# Altium footprint library Dual-In-Line Package.PcbLib: 120 footprints (part 3 of 8)
Each footprint in its own frame and in the unit in brackets; x right, y up, seen from the top. Pads: shape width x height; smd on the part's side, far side on the other; paste and mask are expansions set on the pad; w line width, h text height; cw(c..) or ccw(c..) is an arc to the next point about the centre after c.
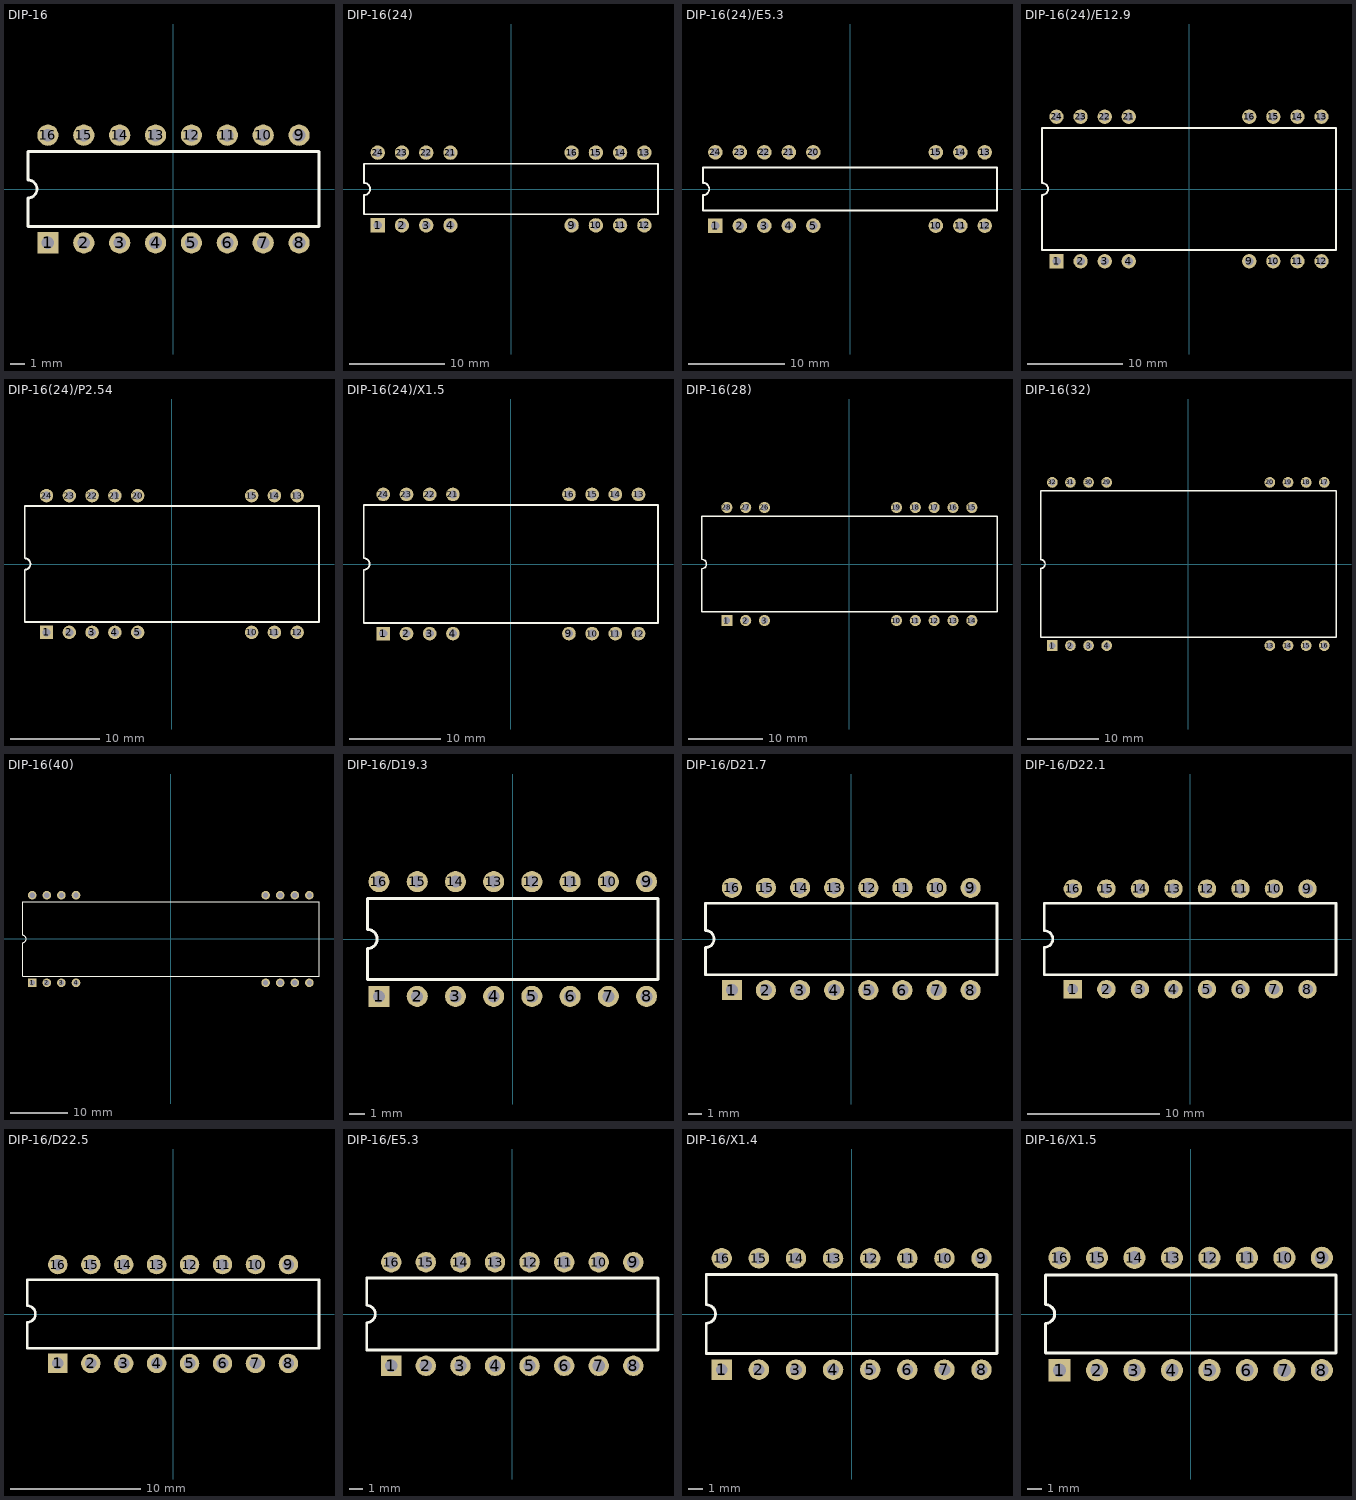
[diagram p2: the footprints below, top view; thin cyan lines are the x and y axes]

## DIP-16 [mm] "DIP; 16 Leads; Row Spacing 7.62 mm; Pitch 2.54 mm"
height 5.08
pads (16):
  rect 1.5x1.5 hole 0.9: 1(-8.89,-3.81)
  round 1.5 hole 0.9: 2(-6.35,-3.81) 3(-3.81,-3.81) 4(-1.27,-3.81) 5(1.27,-3.81) 6(3.81,-3.81) 7(6.35,-3.81) 8(8.89,-3.81) 9(8.89,3.81) 10(6.35,3.81) 11(3.81,3.81) 12(1.27,3.81) 13(-1.27,3.81) 14(-3.81,3.81) 15(-6.35,3.81) 16(-8.89,3.81)
Top Overlay:
  lines w0.2: -10.3,-2.65 -10.3,-0.635 ccw(c-10.3,0) -10.3,0.635 -10.3,2.65 10.3,2.65 10.3,-2.65 -10.3,-2.65

## DIP-16(24) [mm] "DIP; 24 Leads (8 Absent); Row Spacing 7.62 mm; Pitch 2.54 mm"
height 4.7
pads (16):
  rect 1.5x1.5 hole 0.9: 1(-13.97,-3.81)
  round 1.5 hole 0.9: 2(-11.43,-3.81) 3(-8.89,-3.81) 4(-6.35,-3.81) 9(6.35,-3.81) 10(8.89,-3.81) 11(11.43,-3.81) 12(13.97,-3.81) 13(13.97,3.81) 14(11.43,3.81) 15(8.89,3.81) 16(6.35,3.81) 21(-6.35,3.81) 22(-8.89,3.81) 23(-11.43,3.81) 24(-13.97,3.81)
Top Overlay:
  lines w0.2: -15.4,-2.65 15.4,-2.65 15.4,2.65 -15.4,2.65 -15.4,0.635 cw(c-15.4,0) -15.4,-0.635 -15.4,-2.65

## DIP-16(24)/E5.3 [mm] "DIP; 24 Leads (8 Absent); Row Spacing 7.62 mm; Pitch 2.54 mm"
height 5.33
pads (16):
  rect 1.5x1.5 hole 0.9: 1(-13.97,-3.81)
  round 1.5 hole 0.9: 2(-11.43,-3.81) 3(-8.89,-3.81) 4(-6.35,-3.81) 5(-3.81,-3.81) 10(8.89,-3.81) 11(11.43,-3.81) 12(13.97,-3.81) 13(13.97,3.81) 14(11.43,3.81) 15(8.89,3.81) 20(-3.81,3.81) 21(-6.35,3.81) 22(-8.89,3.81) 23(-11.43,3.81) 24(-13.97,3.81)
Top Overlay:
  lines w0.2: -15.24,-2.225 15.24,-2.225 15.24,2.225 -15.24,2.225 -15.24,0.635 cw(c-15.24,0) -15.24,-0.635 -15.24,-2.225

## DIP-16(24)/E12.9 [mm] "DIP; 24 Leads (8 Absent); Row Spacing 15.24 mm; Pitch 2.54 mm"
height 4.7
pads (16):
  rect 1.5x1.5 hole 0.9: 1(-13.97,-7.62)
  round 1.5 hole 0.9: 2(-11.43,-7.62) 3(-8.89,-7.62) 4(-6.35,-7.62) 9(6.35,-7.62) 10(8.89,-7.62) 11(11.43,-7.62) 12(13.97,-7.62) 13(13.97,7.62) 14(11.43,7.62) 15(8.89,7.62) 16(6.35,7.62) 21(-6.35,7.62) 22(-8.89,7.62) 23(-11.43,7.62) 24(-13.97,7.62)
Top Overlay:
  lines w0.2: -15.5,-6.45 15.5,-6.45 15.5,6.45 -15.5,6.45 -15.5,0.635 cw(c-15.5,0) -15.5,-0.635 -15.5,-6.45

## DIP-16(24)/P2.54 [mm] "DIP; 24 Leads (8 Absent); Row Spacing 15.24 mm; Pitch 2.54 mm"
height 6.35
pads (16):
  rect 1.5x1.5 hole 0.9: 1(-13.97,-7.62)
  round 1.5 hole 0.9: 2(-11.43,-7.62) 3(-8.89,-7.62) 4(-6.35,-7.62) 5(-3.81,-7.62) 10(8.89,-7.62) 11(11.43,-7.62) 12(13.97,-7.62) 13(13.97,7.62) 14(11.43,7.62) 15(8.89,7.62) 20(-3.81,7.62) 21(-6.35,7.62) 22(-8.89,7.62) 23(-11.43,7.62) 24(-13.97,7.62)
Top Overlay:
  lines w0.2: -16.4,-6.45 16.4,-6.45 16.4,6.45 -16.4,6.45 -16.4,0.635 cw(c-16.4,0) -16.4,-0.635 -16.4,-6.45

## DIP-16(24)/X1.5 [mm] "DIP; 24 Leads (8 Absent); Row Spacing 15.24 mm; Pitch 2.54 mm"
height 9.52
pads (16):
  rect 1.5x1.5 hole 0.9: 1(-13.97,-7.62)
  round 1.5 hole 0.9: 2(-11.43,-7.62) 3(-8.89,-7.62) 4(-6.35,-7.62) 9(6.35,-7.62) 10(8.89,-7.62) 11(11.43,-7.62) 12(13.97,-7.62) 13(13.97,7.62) 14(11.43,7.62) 15(8.89,7.62) 16(6.35,7.62) 21(-6.35,7.62) 22(-8.89,7.62) 23(-11.43,7.62) 24(-13.97,7.62)
Top Overlay:
  lines w0.2: -16.1,-6.45 -16.1,-0.635 ccw(c-16.1,0) -16.1,0.635 -16.1,6.45 16.1,6.45 16.1,-6.45 -16.1,-6.45

## DIP-16(28) [mm] "DIP; 28 Leads (12 Absent); Row Spacing 15.24 mm; Pitch 2.54 mm"
height 6.35
pads (16):
  rect 1.5x1.5 hole 0.9: 1(-16.51,-7.62)
  round 1.5 hole 0.9: 2(-13.97,-7.62) 3(-11.43,-7.62) 10(6.35,-7.62) 11(8.89,-7.62) 12(11.43,-7.62) 13(13.97,-7.62) 14(16.51,-7.62) 15(16.51,7.62) 16(13.97,7.62) 17(11.43,7.62) 18(8.89,7.62) 19(6.35,7.62) 26(-11.43,7.62) 27(-13.97,7.62) 28(-16.51,7.62)
Top Overlay:
  lines w0.2: -19.9,-6.45 19.9,-6.45 19.9,6.45 -19.9,6.45 -19.9,0.635 cw(c-19.9,0) -19.9,-0.635 -19.9,-6.45

## DIP-16(32) [mm] "DIP; 32 Leads (16 Absent); Row Spacing 22.86 mm; Pitch 2.54 mm"
height 9.4
pads (16):
  rect 1.5x1.5 hole 0.9: 1(-19.05,-11.43)
  round 1.5 hole 0.9: 2(-16.51,-11.43) 3(-13.97,-11.43) 4(-11.43,-11.43) 13(11.43,-11.43) 14(13.97,-11.43) 15(16.51,-11.43) 16(19.05,-11.43) 17(19.05,11.43) 18(16.51,11.43) 19(13.97,11.43) 20(11.43,11.43) 29(-11.43,11.43) 30(-13.97,11.43) 31(-16.51,11.43) 32(-19.05,11.43)
Top Overlay:
  lines w0.2: -20.7,-10.25 20.7,-10.25 20.7,10.25 -20.7,10.25 -20.7,0.635 cw(c-20.7,0) -20.7,-0.635 -20.7,-10.25

## DIP-16(40) [mm] "DIP; 40 Leads (24 Absent); Row Spacing 15.24 mm; Pitch 2.54 mm"
height 4.83
pads (16):
  rect 1.5x1.5 hole 0.9: 1(-24.13,-7.62)
  round 1.5 hole 0.9: 2(-21.59,-7.62) 3(-19.05,-7.62) 4(-16.51,-7.62) 17(16.51,-7.62) 18(19.05,-7.62) 19(21.59,-7.62) 20(24.13,-7.62) 21(24.13,7.62) 22(21.59,7.62) 23(19.05,7.62) 24(16.51,7.62) 37(-16.51,7.62) 38(-19.05,7.62) 39(-21.59,7.62) 40(-24.13,7.62)
Top Overlay:
  lines w0.2: -25.8,-6.45 -25.8,-0.635 ccw(c-25.8,0) -25.8,0.635 -25.8,6.45 25.8,6.45 25.8,-6.45 -25.8,-6.45

## DIP-16/D19.3 [mm] "DIP; 16 Leads; Row Spacing 7.62 mm; Pitch 2.54 mm"
height 4
pads (16):
  rect 1.4x1.4 hole 0.8: 1(-8.89,-3.81)
  round 1.4 hole 0.8: 2(-6.35,-3.81) 3(-3.81,-3.81) 4(-1.27,-3.81) 5(1.27,-3.81) 6(3.81,-3.81) 7(6.35,-3.81) 8(8.89,-3.81) 9(8.89,3.81) 10(6.35,3.81) 11(3.81,3.81) 12(1.27,3.81) 13(-1.27,3.81) 14(-3.81,3.81) 15(-6.35,3.81) 16(-8.89,3.81)
Top Overlay:
  lines w0.2: -9.65,-2.7 -9.65,-0.635 ccw(c-9.65,0) -9.65,0.635 -9.65,2.7 9.65,2.7 9.65,-2.7 -9.65,-2.7

## DIP-16/D21.7 [mm] "DIP; 16 Leads; Row Spacing 7.62 mm; Pitch 2.54 mm"
height 5.08
pads (16):
  rect 1.5x1.5 hole 0.9: 1(-8.89,-3.81)
  round 1.5 hole 0.9: 2(-6.35,-3.81) 3(-3.81,-3.81) 4(-1.27,-3.81) 5(1.27,-3.81) 6(3.81,-3.81) 7(6.35,-3.81) 8(8.89,-3.81) 9(8.89,3.81) 10(6.35,3.81) 11(3.81,3.81) 12(1.27,3.81) 13(-1.27,3.81) 14(-3.81,3.81) 15(-6.35,3.81) 16(-8.89,3.81)
Top Overlay:
  lines w0.2: -10.85,-2.65 10.85,-2.65 10.85,2.65 -10.85,2.65 -10.85,0.635 cw(c-10.85,0) -10.85,-0.635 -10.85,-2.65

## DIP-16/D22.1 [mm] "DIP; 16 Leads; Row Spacing 7.62 mm; Pitch 2.54 mm"
height 5.33
pads (16):
  rect 1.4x1.4 hole 0.8: 1(-8.89,-3.81)
  round 1.4 hole 0.8: 2(-6.35,-3.81) 3(-3.81,-3.81) 4(-1.27,-3.81) 5(1.27,-3.81) 6(3.81,-3.81) 7(6.35,-3.81) 8(8.89,-3.81) 9(8.89,3.81) 10(6.35,3.81) 11(3.81,3.81) 12(1.27,3.81) 13(-1.27,3.81) 14(-3.81,3.81) 15(-6.35,3.81) 16(-8.89,3.81)
Top Overlay:
  lines w0.2: -11.05,-2.7 11.05,-2.7 11.05,2.7 -11.05,2.7 -11.05,0.635 cw(c-11.05,0) -11.05,-0.635 -11.05,-2.7

## DIP-16/D22.5 [mm] "CerDIP; 16 Leads; Row Spacing 7.62 mm; Pitch 2.54 mm"
height 5.84
pads (16):
  rect 1.5x1.5 hole 0.9: 1(-8.89,-3.81)
  round 1.5 hole 0.9: 2(-6.35,-3.81) 3(-3.81,-3.81) 4(-1.27,-3.81) 5(1.27,-3.81) 6(3.81,-3.81) 7(6.35,-3.81) 8(8.89,-3.81) 9(8.89,3.81) 10(6.35,3.81) 11(3.81,3.81) 12(1.27,3.81) 13(-1.27,3.81) 14(-3.81,3.81) 15(-6.35,3.81) 16(-8.89,3.81)
Top Overlay:
  lines w0.2: -11.25,-2.65 -11.25,-0.635 ccw(c-11.25,0) -11.25,0.635 -11.25,2.65 11.25,2.65 11.25,-2.65 -11.25,-2.65

## DIP-16/E5.3 [mm] "DIP; 16 Leads; Row Spacing 7.62 mm; Pitch 2.54 mm"
height 5.08
pads (16):
  rect 1.5x1.5 hole 0.9: 1(-8.89,-3.81)
  round 1.5 hole 0.9: 2(-6.35,-3.81) 3(-3.81,-3.81) 4(-1.27,-3.81) 5(1.27,-3.81) 6(3.81,-3.81) 7(6.35,-3.81) 8(8.89,-3.81) 9(8.89,3.81) 10(6.35,3.81) 11(3.81,3.81) 12(1.27,3.81) 13(-1.27,3.81) 14(-3.81,3.81) 15(-6.35,3.81) 16(-8.89,3.81)
Top Overlay:
  lines w0.2: -10.7,-2.65 -10.7,-0.635 ccw(c-10.7,0) -10.7,0.635 -10.7,2.65 10.7,2.65 10.7,-2.65 -10.7,-2.65

## DIP-16/X1.4 [mm] "DIP; 16 Leads; Row Spacing 7.62 mm; Pitch 2.54 mm"
height 5.08
pads (16):
  rect 1.4x1.4 hole 0.8: 1(-8.89,-3.81)
  round 1.4 hole 0.8: 2(-6.35,-3.81) 3(-3.81,-3.81) 4(-1.27,-3.81) 5(1.27,-3.81) 6(3.81,-3.81) 7(6.35,-3.81) 8(8.89,-3.81) 9(8.89,3.81) 10(6.35,3.81) 11(3.81,3.81) 12(1.27,3.81) 13(-1.27,3.81) 14(-3.81,3.81) 15(-6.35,3.81) 16(-8.89,3.81)
Top Overlay:
  lines w0.2: -9.95,-2.7 -9.95,-0.635 ccw(c-9.95,0) -9.95,0.635 -9.95,2.7 9.95,2.7 9.95,-2.7 -9.95,-2.7

## DIP-16/X1.5 [mm] "DIP; 16 Leads; Row Spacing 7.62 mm; Pitch 2.54 mm"
height 5.33
pads (16):
  rect 1.5x1.5 hole 0.9: 1(-8.89,-3.81)
  round 1.5 hole 0.9: 2(-6.35,-3.81) 3(-3.81,-3.81) 4(-1.27,-3.81) 5(1.27,-3.81) 6(3.81,-3.81) 7(6.35,-3.81) 8(8.89,-3.81) 9(8.89,3.81) 10(6.35,3.81) 11(3.81,3.81) 12(1.27,3.81) 13(-1.27,3.81) 14(-3.81,3.81) 15(-6.35,3.81) 16(-8.89,3.81)
Top Overlay:
  lines w0.2: -9.85,-2.65 9.85,-2.65 9.85,2.65 -9.85,2.65 -9.85,0.635 cw(c-9.85,0) -9.85,-0.635 -9.85,-2.65